# Altium schematic symbol library WS-MITV.SchLib: 9 symbols
Pins are listed as number, name and electrical type; pins without a type are passive.

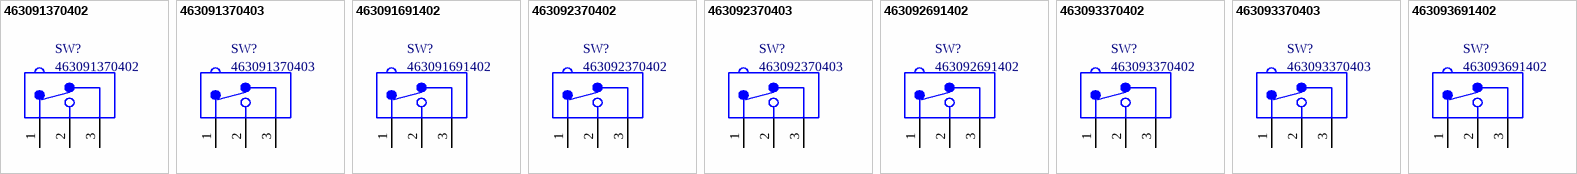
[diagram p0: symbols 463091370402 to 463093691402]

## 463091370402
designator SW?
WS-MITV THT Terminal with Actuator Micro Switch, 12.8 x 5.8 mm, SPDT, 150 gf; Manufacturer: Wurth Elektronik; Operation Force: 150 gf; Operating Position: 5.5 mm; Manufacturer Part Number: 463091370402; Category: Micro Switch; Match Code: WS-MITV; ComponentLink1Description: Website Link; ComponentLink1URL: https://www.we-online.com/redexpert/article/463091370402?ad; ComponentLink2Description: Datasheet Link; ComponentLink2URL: https://www.we-online.com/redexpert/spec/463091370402?ad; Mount: Through Hole; Min Operating Temperature: -40 °C; Max Operating Temperature: 85 °C; Packaging: Tray; Circuit: SPDT; Terminal Material: Copper Alloy; Terminal Plating: Silver
footprint 463091370402
pins: 1 COM, 2 NO, 3 NC

## 463091370403
designator SW?
WS-MITV THT Terminal with Actuator Micro Switch,19.8 x 6.4mm, SPDT, 240 gf; Manufacturer: Wurth Elektronik; Operation Force: 240 gf; Operating Position: 8.4 mm; Manufacturer Part Number: 463091370403; Category: Micro Switch; Match Code: WS-MITV; ComponentLink1Description: Website Link; ComponentLink1URL: https://www.we-online.com/redexpert/article/463091370403?ad; ComponentLink2Description: Datasheet Link; ComponentLink2URL: https://www.we-online.com/redexpert/spec/463091370403?ad; Mount: Through Hole; Min Operating Temperature: 0 °C; Max Operating Temperature: 105 °C; Packaging: Tray; Circuit: SPDT; Terminal Material: Copper Alloy; Terminal Plating: Silver
footprint 463091370403
pins: 1 COM, 2 NO, 3 NC

## 463091691402
designator SW?
WS-MITV THT Terminal with Actuator, Right Angle Operation Micro Switch, 12.8 x 5.8 mm, SPDT, 150 gf; Manufacturer: Wurth Elektronik; Operation Force: 150 gf; Operating Position: 5.5 mm; Manufacturer Part Number: 463091691402; Category: Micro Switch; Match Code: WS-MITV; ComponentLink1Description: Website Link; ComponentLink1URL: https://www.we-online.com/redexpert/article/463091691402?ad; ComponentLink2Description: Datasheet Link; ComponentLink2URL: https://www.we-online.com/redexpert/spec/463091691402?ad; Mount: Through Hole; Min Operating Temperature: -40 °C; Max Operating Temperature: 85 °C; Packaging: Tray; Circuit: SPDT; Terminal Material: Copper Alloy; Terminal Plating: Silver
footprint 463091691402
pins: 1 COM, 2 NO, 3 NC

## 463092370402
designator SW?
WS-MITV THT Terminal with Lever Micro Switch, 12.8 x 5.8 mm, SPDT, 80 gf; Manufacturer: Wurth Elektronik; Operation Force: 80 gf; Operating Position: 6.8 mm; Manufacturer Part Number: 463092370402; Category: Micro Switch; Match Code: WS-MITV; ComponentLink1Description: Website Link; ComponentLink1URL: https://www.we-online.com/redexpert/article/463092370402?ad; ComponentLink2Description: Datasheet Link; ComponentLink2URL: https://www.we-online.com/redexpert/spec/463092370402?ad; Mount: Through Hole; Min Operating Temperature: -40 °C; Max Operating Temperature: 85 °C; Packaging: Tray; Circuit: SPDT; Terminal Material: Copper Alloy; Terminal Plating: Silver
footprint 463092370402
pins: 1 COM, 2 NO, 3 NC

## 463092370403
designator SW?
WS-MITV THT Terminal with Lever Micro Switch, 19.8 x 6.4mm, SPDT, 55 gf; Manufacturer: Wurth Elektronik; Operation Force: 55 gf; Operating Position: 9 mm; Manufacturer Part Number: 463092370403; Category: Micro Switch; Match Code: WS-MITV; ComponentLink1Description: Website Link; ComponentLink1URL: https://www.we-online.com/redexpert/article/463092370403?ad; ComponentLink2Description: Datasheet Link; ComponentLink2URL: https://www.we-online.com/redexpert/spec/463092370403?ad; Mount: Through Hole; Min Operating Temperature: 0 °C; Max Operating Temperature: 105 °C; Packaging: Tray; Circuit: SPDT; Terminal Material: Copper Alloy; Terminal Plating: Silver
footprint 463092370403
pins: 1 COM, 2 NO, 3 NC

## 463092691402
designator SW?
WS-MITV THT Terminal with Lever, Right Angle Operation Micro Switch, 12.8 x 5.8 mm, SPDT, 80 gf; Manufacturer: Wurth Elektronik; Operation Force: 80 gf; Operating Position: 6.8 mm; Manufacturer Part Number: 463092691402; Category: Micro Switch; Match Code: WS-MITV; ComponentLink1Description: Website Link; ComponentLink1URL: https://www.we-online.com/redexpert/article/463092691402?ad; ComponentLink2Description: Datasheet Link; ComponentLink2URL: https://www.we-online.com/redexpert/spec/463092691402?ad; Mount: Through Hole; Min Operating Temperature: -40 °C; Max Operating Temperature: 85 °C; Packaging: Tray; Circuit: SPDT; Terminal Material: Copper Alloy; Terminal Plating: Silver
footprint 463092691402
pins: 1 COM, 2 NO, 3 NC

## 463093370402
designator SW?
WS-MITV THT Terminal with Roller Lever Micro Switch, 12.8 x 5.8 mm, SPDT, 80 gf; Manufacturer: Wurth Elektronik; Operation Force: 80 gf; Operating Position: 13 mm; Manufacturer Part Number: 463093370402; Category: Micro Switch; Match Code: WS-MITV; ComponentLink1Description: Website Link; ComponentLink1URL: https://www.we-online.com/redexpert/article/463093370402?ad; ComponentLink2Description: Datasheet Link; ComponentLink2URL: https://www.we-online.com/redexpert/spec/463093370402?ad; Mount: Through Hole; Min Operating Temperature: -40 °C; Max Operating Temperature: 85 °C; Packaging: Tray; Circuit: SPDT; Terminal Material: Copper Alloy; Terminal Plating: Silver
footprint 463093370402
pins: 1 COM, 2 NO, 3 NC

## 463093370403
designator SW?
WS-MITV THT Terminal with Roller Lever Micro Switch, 19.8 x 6.4mm, SPDT, 55 gf; Manufacturer: Wurth Elektronik; Operation Force: 55 gf; Operating Position: 14.9 mm; Manufacturer Part Number: 463093370403; Category: Micro Switch; Match Code: WS-MITV; ComponentLink1Description: Website Link; ComponentLink1URL: https://www.we-online.com/redexpert/article/463093370403?ad; ComponentLink2Description: Datasheet Link; ComponentLink2URL: https://www.we-online.com/redexpert/spec/463093370403?ad; Mount: Through Hole; Min Operating Temperature: 0 °C; Max Operating Temperature: 105 °C; Packaging: Tray; Circuit: SPDT; Terminal Material: Copper Alloy; Terminal Plating: Silver
footprint 463093370403
pins: 1 COM, 2 NO, 3 NC

## 463093691402
designator SW?
WS-MITV THT Terminal with Roller Lever, Right Angle Operation Micro Switch, 12.8 x 5.8 mm, SPDT, 80 gf; Manufacturer: Wurth Elektronik; Operation Force: 80 gf; Operating Position: 13 mm; Manufacturer Part Number: 463093691402; Category: Micro Switch; Match Code: WS-MITV; ComponentLink1Description: Website Link; ComponentLink1URL: https://www.we-online.com/redexpert/article/463093691402?ad; ComponentLink2Description: Datasheet Link; ComponentLink2URL: https://www.we-online.com/redexpert/spec/463093691402?ad; Mount: Through Hole; Min Operating Temperature: -40 °C; Max Operating Temperature: 85 °C; Packaging: Tray; Circuit: SPDT; Terminal Material: Copper Alloy; Terminal Plating: Silver
footprint 463093691402
pins: 1 COM, 2 NO, 3 NC